# EAGLE library part AD7781 (library SparkFun-paranoidstudio)
AD7781 20-Bit, Pin-Programmable, Ultralow Power Sigma-Delta ADC
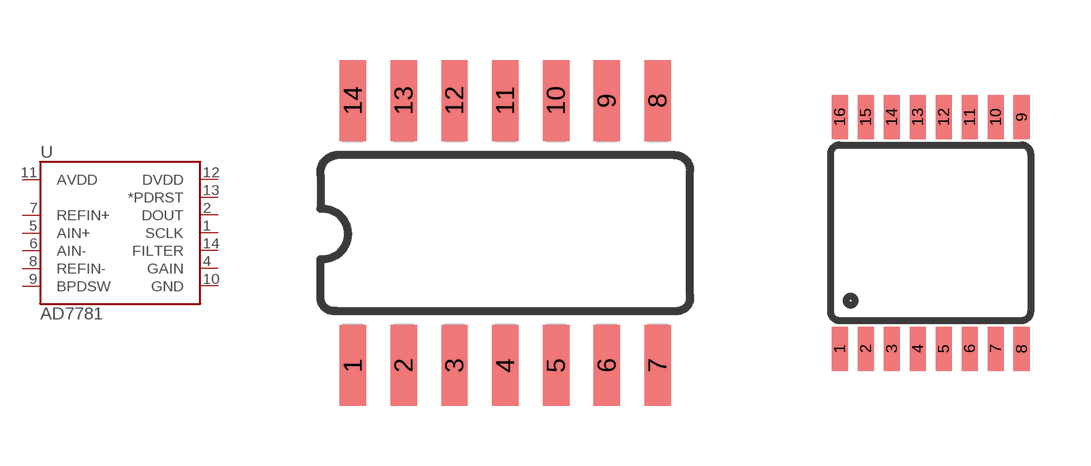
[diagram p358: symbol with the pads of SOIC-14; footprints SOIC-14, TSSOP-16]

Designator prefix U

## AD7781CRZ  [SOIC-14]
1  SCLK
2  DOUT
4  GAIN
5  AIN+
6  AIN-
7  REFIN+
8  REFIN-
9  BPDSW
10  GND
11  AVDD
12  DVDD
13  *PDRST
14  FILTER

## AD7781CRUZ  [TSSOP-16]
2  SCLK
3  DOUT
5  GAIN
6  AIN+
7  AIN-
8  REFIN+
9  REFIN-
10  BPDSW
11  GND
12  AVDD
13  DVDD
14  *PDRST
15  FILTER

## Footprint SOIC-14 (pad centres in mm)
smd 0.66 x 2.032: 1 -4.445,-3.315; 2 -3.175,-3.315; 3 -1.905,-3.315; 4 -0.635,-3.315; 5 0.635,-3.315; 6 1.905,-3.315; 7 3.175,-3.315; 8 3.175,3.315; 9 1.905,3.315; 10 0.635,3.315; 11 -0.635,3.315; 12 -1.905,3.315; 13 -3.175,3.315; 14 -4.445,3.315

## Footprint TSSOP-16 (pad centres in mm)
smd 0.4 x 1.1: 1 -2.275,-2.9; 2 -1.625,-2.9; 3 -0.975,-2.9; 4 -0.325,-2.9; 5 0.325,-2.9; 6 0.975,-2.9; 7 1.625,-2.9; 8 2.275,-2.9; 9 2.275,2.9; 10 1.625,2.9; 11 0.975,2.9; 12 0.325,2.9; 13 -0.325,2.9; 14 -0.975,2.9; 15 -1.625,2.9; 16 -2.275,2.9